# Altium footprint library SamacSys.PcbLib: 10 footprints
Each footprint in its own frame and in the unit in brackets; x right, y up, seen from the top. Pads: shape width x height; smd on the part's side, far side on the other; paste and mask are expansions set on the pad; w line width, h text height; cw(c..) or ccw(c..) is an arc to the next point about the centre after c.
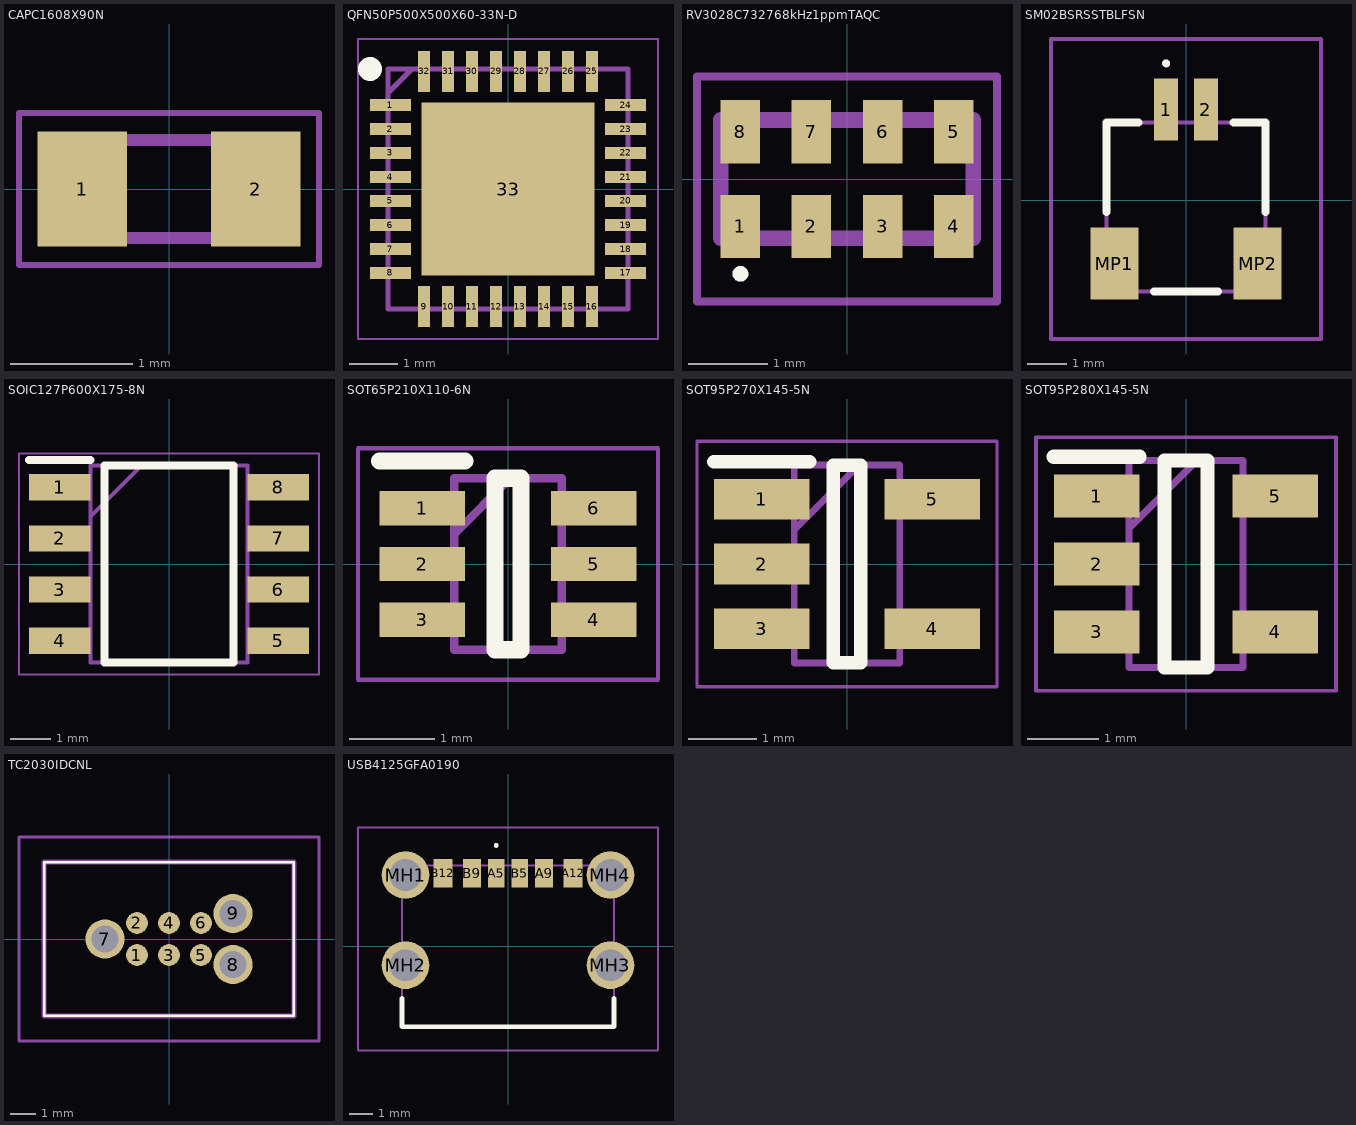
[diagram p0: the footprints below, top view; thin cyan lines are the x and y axes]

## CAPC1608X90N [mm]
pads (2):
  rect 0.73x0.94 smd: 1(-0.71,0) 2(0.71,0)
Mechanical 13:
  lines w0.1: -0.8,-0.4 -0.8,0.4 0.8,0.4 0.8,-0.4 -0.8,-0.4
Mechanical 15:
  lines w0.05: -1.225,-0.62 -1.225,0.62 1.225,0.62 1.225,-0.62 -1.225,-0.62
3D body "CL10A475KO8NNNC.stp": height 0.9, standoff 0, extent -0.8,-0.4 0.8,0.4

## QFN50P500X500X60-33N-D [mm]
pads (33):
  rect 0.85x0.25 smd: 1(-2.45,1.75) 2(-2.45,1.25) 3(-2.45,0.75) 4(-2.45,0.25) 5(-2.45,-0.25) 6(-2.45,-0.75) 7(-2.45,-1.25) 8(-2.45,-1.75) 17(2.45,-1.75) 18(2.45,-1.25) 19(2.45,-0.75) 20(2.45,-0.25) 21(2.45,0.25) 22(2.45,0.75) 23(2.45,1.25) 24(2.45,1.75)
  rect 0.25x0.85 smd: 9(-1.75,-2.45) 10(-1.25,-2.45) 11(-0.75,-2.45) 12(-0.25,-2.45) 13(0.25,-2.45) 14(0.75,-2.45) 15(1.25,-2.45) 16(1.75,-2.45) 25(1.75,2.45) 26(1.25,2.45) 27(0.75,2.45) 28(0.25,2.45) 29(-0.25,2.45) 30(-0.75,2.45) 31(-1.25,2.45) 32(-1.75,2.45)
  rect 3.6x3.6 smd: 33(0,0)
Top Overlay:
  circle w0.25: c-2.875,2.5 r0.125
Mechanical 13:
  lines w0.1: -2.5,2 -2,2.5 ; -2.5,-2.5 -2.5,2.5 2.5,2.5 2.5,-2.5 -2.5,-2.5
Mechanical 15:
  lines w0.05: -3.125,-3.125 -3.125,3.125 3.125,3.125 3.125,-3.125 -3.125,-3.125
3D body "STM32L031K6U6.stp": height 0.6, standoff 0, extent -2.55,-2.55 2.55,2.55

## RV3028C732768kHz1ppmTAQC [mm]
pads (8):
  rect 0.5x0.8 smd: 1(-1.35,-0.6) 2(-0.45,-0.6) 3(0.45,-0.6) 4(1.35,-0.6) 5(1.35,0.6) 6(0.45,0.6) 7(-0.45,0.6) 8(-1.35,0.6)
Top Overlay:
  lines w0.1: -1.4,-1.2 cw(c-1.35,-1.2) -1.3,-1.2 cw(c-1.35,-1.2) -1.4,-1.2
Mechanical 13:
  lines w0.2: -1.6,-0.75 -1.6,0.75 1.6,0.75 1.6,-0.75 -1.6,-0.75
Mechanical 15:
  lines w0.1: -1.9,-1.55 -1.9,1.3 1.9,1.3 1.9,-1.55 -1.9,-1.55
3D body "RV-3028-C7.stp": height 0.8, standoff 0, extent -1.6,-0.75 1.6,0.75

## SM02BSRSSTBLFSN [mm]
pads (4):
  rect 0.6x1.55 smd: 1(-0.5,2.288) 2(0.5,2.288)
  rect 1.2x1.8 smd: MP1(-1.8,-1.587) MP2(1.8,-1.587)
Top Overlay:
  lines w0.1: -0.5,3.4 cw(c-0.5,3.45) -0.5,3.5 cw(c-0.5,3.45) -0.5,3.4
  lines w0.2: -2,-0.288 -2,1.962 -1.2,1.962 ; -0.8,-2.288 0.8,-2.288 ; 1.2,1.962 2,1.962 2,-0.288
Mechanical 13:
  lines w0.1: -2,-2.288 -2,1.962 2,1.962 2,-2.288 -2,-2.288
Mechanical 15:
  lines w0.1: -3.4,-3.487 -3.4,4.063 3.4,4.063 3.4,-3.487 -3.4,-3.487
3D body "SM02B-SRSS-TB__LF__SN_.stp": height 2.97, standoff 0.01, extent -2,-2.185 2,2.765

## SOIC127P600X175-8N [mm]
pads (8):
  rect 1.525x0.65 smd: 1(-2.712,1.905) 2(-2.712,0.635) 3(-2.712,-0.635) 4(-2.712,-1.905) 5(2.712,-1.905) 6(2.712,-0.635) 7(2.712,0.635) 8(2.712,1.905)
Top Overlay:
  lines w0.2: -3.475,2.58 -1.95,2.58 ; -1.6,-2.45 -1.6,2.45 1.6,2.45 1.6,-2.45 -1.6,-2.45
Mechanical 13:
  lines w0.1: -1.95,1.18 -0.68,2.45 ; -1.95,-2.45 -1.95,2.45 1.95,2.45 1.95,-2.45 -1.95,-2.45
Mechanical 15:
  lines w0.05: -3.725,-2.75 -3.725,2.75 3.725,2.75 3.725,-2.75 -3.725,-2.75
3D body "NE555DR.stp": height 1.75, standoff 0, extent -3,-2.45 3,2.45

## SOT65P210X110-6N [mm]
pads (6):
  rect 1x0.4 smd: 1(-1,0.65) 2(-1,0) 3(-1,-0.65) 4(1,-0.65) 5(1,0) 6(1,0.65)
Top Overlay:
  lines w0.2: -1.5,1.2 -0.5,1.2 ; -0.15,-1 -0.15,1 0.15,1 0.15,-1 -0.15,-1
Mechanical 13:
  lines w0.1: -0.625,0.35 0.025,1 ; -0.625,-1 -0.625,1 0.625,1 0.625,-1 -0.625,-1
Mechanical 15:
  lines w0.05: -1.75,-1.35 -1.75,1.35 1.75,1.35 1.75,-1.35 -1.75,-1.35
3D body "DMG1016UDW-7.stp": height 1.1, standoff 0, extent -1.05,-1.075 1.05,1.075

## SOT95P270X145-5N [mm]
pads (5):
  rect 1.4x0.6 smd: 1(-1.25,0.95) 2(-1.25,0) 3(-1.25,-0.95) 4(1.25,-0.95) 5(1.25,0.95)
Top Overlay:
  lines w0.2: -1.95,1.5 -0.55,1.5 ; -0.2,-1.45 -0.2,1.45 0.2,1.45 0.2,-1.45 -0.2,-1.45
Mechanical 13:
  lines w0.1: -0.775,0.5 0.175,1.45 ; -0.775,-1.45 -0.775,1.45 0.775,1.45 0.775,-1.45 -0.775,-1.45
Mechanical 15:
  lines w0.05: -2.2,-1.8 -2.2,1.8 2.2,1.8 2.2,-1.8 -2.2,-1.8
3D body "MCP73831T-2ACI_OT.stp": height 1.45, standoff 0, extent -1.35,-1.45 1.35,1.45

## SOT95P280X145-5N [mm]
pads (5):
  rect 1.2x0.6 smd: 1(-1.25,0.95) 2(-1.25,0) 3(-1.25,-0.95) 4(1.25,-0.95) 5(1.25,0.95)
Top Overlay:
  lines w0.2: -1.85,1.5 -0.65,1.5 ; -0.3,-1.45 0.3,-1.45 0.3,1.45 -0.3,1.45 -0.3,-1.45
Mechanical 13:
  lines w0.1: -0.8,0.5 0.15,1.45 ; -0.8,-1.45 0.8,-1.45 0.8,1.45 -0.8,1.45 -0.8,-1.45
Mechanical 15:
  lines w0.05: -2.1,-1.775 2.1,-1.775 2.1,1.775 -2.1,1.775 -2.1,-1.775

## TC2030IDCNL [mm]
pads (9):
  round 0.863 smd: 1(-1.27,-0.635) 2(-1.27,0.635) 3(0,-0.635) 4(0,0.635) 5(1.27,-0.635) 6(1.27,0.635)
  round 1.55 hole 1.067: 7(-2.54,0) 8(2.54,-1.016) 9(2.54,1.016)
Top Overlay:
  lines w0.1: -4.953,-3.048 -4.953,3.048 4.953,3.048 4.953,-3.048 -4.953,-3.048
Mechanical 13:
  lines w0.2: -4.953,-3.048 -4.953,3.048 4.953,3.048 4.953,-3.048 -4.953,-3.048
Mechanical 15:
  lines w0.1: -5.953,-4.048 -5.953,4.048 5.953,4.048 5.953,-4.048 -5.953,-4.048
3D body "TC2030-IDC-NL.stp": height 18.77, standoff -5, extent -4.953,-3.048 4.953,3.048

## USB4125GFA0190 [mm]
pads (10):
  rect 0.7x1.2 smd: A5(-0.5,3.08) B5(0.5,3.08)
  rect 0.76x1.2 smd: A9(1.52,3.08) B9(-1.52,3.08)
  rect 0.8x1.2 smd: A12(2.75,3.08) B12(-2.75,3.08)
  round 2.01 hole 1.34: MH1(-4.32,3) MH2(-4.32,-0.8) MH3(4.32,-0.8) MH4(4.32,3)
Top Overlay:
  lines w0.1: -0.5,4.2 cw(c-0.5,4.25) -0.5,4.3 cw(c-0.5,4.25) -0.5,4.2
  lines w0.2: -4.47,-2.2 -4.47,-3.4 4.47,-3.4 4.47,-2.2
Mechanical 13:
  lines w0.1: -4.47,-3.4 -4.47,3.4 4.47,3.4 4.47,-3.4 -4.47,-3.4
Mechanical 15:
  lines w0.1: -6.325,-4.4 -6.325,5.005 6.325,5.005 6.325,-4.4 -6.325,-4.4
3D body "USB4125-GF-A-0190.stp": height 3.26, standoff -2.15, extent -4.47,-3.45 4.47,3.45